# Altium schematic symbol library XT60+MR60.SchLib: 1 symbol
Pins are listed as number, name and electrical type; pins without a type are passive.

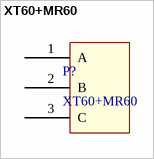
[diagram p0: symbol XT60+MR60]

## XT60+MR60
designator P?
footprint XT60+MR60
pins: 1 A, 2 B, 3 C